# Altium schematic symbol library SCH - POWER - LINEAR VREG - AD MAX1510.SCHLIB: 1 symbol
Pins are listed as number, name and electrical type; pins without a type are passive.

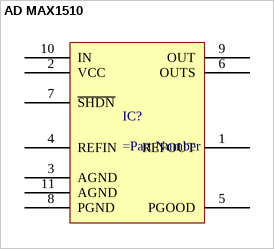
[diagram p0: symbol AD MAX1510]

## AD MAX1510
designator IC?
pins: 1 REFOUT, 2 VCC, 3 AGND, 4 REFIN, 5 PGOOD, 6 OUTS, 7 ~{SHDN}, 8 PGND, 9 OUT, 10 IN, 11 AGND